# EAGLE library part M16 (library Particle)
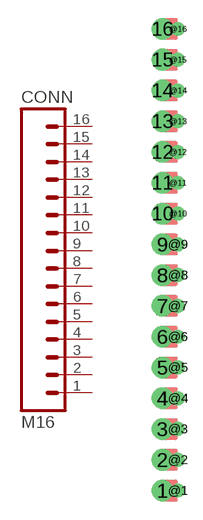
[diagram p40: symbol with the pads of 1X16-CASTELLATED; footprint 1X16-CASTELLATED]

Designator prefix CONN

## M16PTH-CST-R  [1X16-CASTELLATED]
1  1  pas
2  2  pas
3  3  pas
4  4  pas
5  5  pas
6  6  pas
7  7  pas
8  8  pas
9  9  pas
10  10  pas
11  11  pas
12  12  pas
13  13  pas
14  14  pas
15  15  pas
16  16  pas

## Footprint 1X16-CASTELLATED (pad centres in mm)
drill 1.016 pad 1.778: 1 0,-19.05; 2 0,-16.51; 3 0,-13.97; 4 0,-11.43; 5 0,-8.89; 6 0,-6.35; 7 0,-3.81; 8 0,-1.27; 9 0,1.27; 10 0,3.81; 11 0,6.35; 12 0,8.89; 13 0,11.43; 14 0,13.97; 15 0,16.51; 16 0,19.05
drill 0.635 pad 1.016: @1 1.27,-19.05; @2 1.27,-16.51; @3 1.27,-13.97; @4 1.27,-11.43; @5 1.27,-8.89; @6 1.27,-6.35; @7 1.27,-3.81; @8 1.27,-1.27; @9 1.27,1.27; @10 1.27,3.81; @11 1.27,6.35; @12 1.27,8.89; @13 1.27,11.43; @14 1.27,13.97; @15 1.27,16.51; @16 1.27,19.05